# EAGLE library part MP2610 (library IC & Transistor)
2A, 24V Input, 1.1MHz 1/2 - Cell Switching Li-Ion Battery Charger
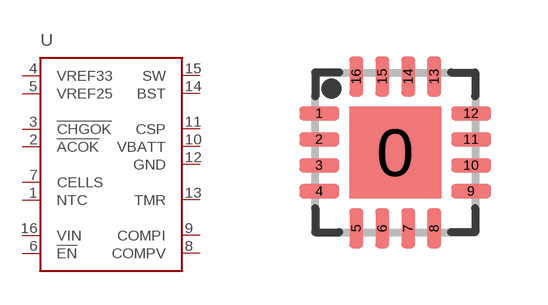
[diagram p79: symbol with the pads of QFN-16; footprint QFN-16]

Designator prefix U

## MP2610 (CYTRON-PC: S-IC-MP2610-QFN16; DESC: 2A, 24V Input Cell Switching Li-Ion Battery Charger; MF: Monolithic Power Systems; MPN: MP2610)  [QFN-16]
1  NTC
2  !ACOK!
3  !CHGOK!
4  VREF33
5  VREF25
6  !EN!
7  CELLS
8  COMPV
9  COMPI
10  VBATT
11  CSP
12  GND
13  TMR
14  BST
15  SW
16  VIN

## Footprint QFN-16 (pad centres in mm)
smd 2.3 x 2.3: 0 0,0
smd 1 x 0.35: 1 -1.9,0.975; 2 -1.9,0.325; 3 -1.9,-0.325; 4 -1.9,-0.975; 9 1.9,-0.975; 10 1.9,-0.325; 11 1.9,0.325; 12 1.9,0.975
smd 0.35 x 1: 5 -0.975,-1.9; 6 -0.325,-1.9; 7 0.325,-1.9; 8 0.975,-1.9; 13 0.975,1.9; 14 0.325,1.9; 15 -0.325,1.9; 16 -0.975,1.9